# Altium schematic symbol library ENS210-LQFM(1).SchLib: 1 symbol
Pins are listed as number, name and electrical type; pins without a type are passive.

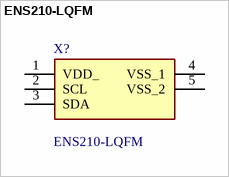
[diagram p0: symbol ENS210-LQFM]

## ENS210-LQFM
designator X?
Board Mount Humidity Sensors ENS210-LQFM MLF4 LF T&R; Manufacturer_Name: ScioSense; Geometry.Height: 0.8mm; Mouser Part Number: 985-ENS210-LQFM; Mouser Price/Stock: https://www.mouser.co.uk/ProductDetail/ScioSense/ENS210-LQFM?qs=Zcin8yvlhnP3xLiFn26B1g%3D%3D; Manufacturer_Part_Number: ENS210-LQFM; Datasheet Link: *
footprint ENS210LQFM
pins: 1 VDD_, 2 SCL, 3 SDA, 4 VSS_1, 5 VSS_2